# Altium footprint library PcbLib3.PcbLib: 1 footprints
Each footprint in its own frame and in the unit in brackets; x right, y up, seen from the top. Pads: shape width x height; smd on the part's side, far side on the other; paste and mask are expansions set on the pad; w line width, h text height; cw(c..) or ccw(c..) is an arc to the next point about the centre after c.
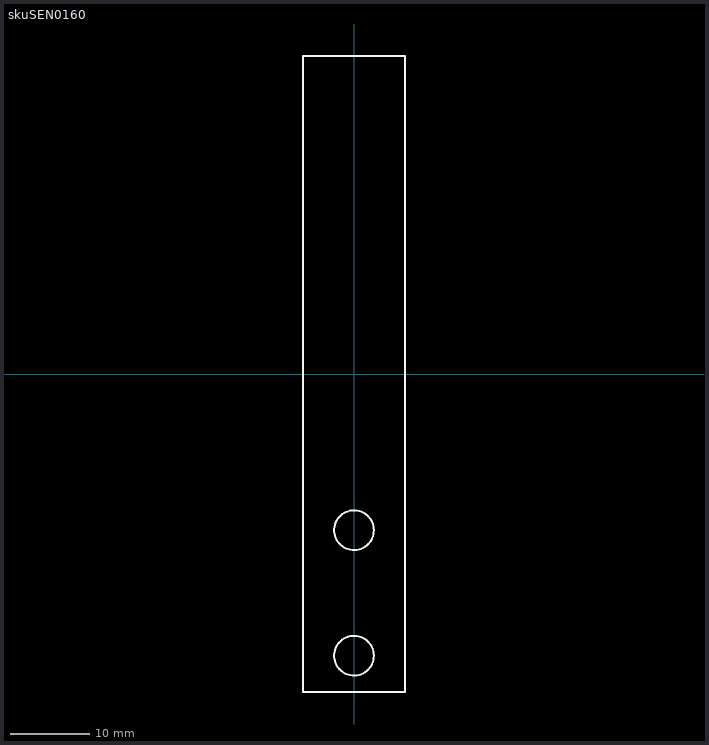
[diagram p0: the footprint, top view; thin cyan lines are the x and y axes]

## skuSEN0160 [mm] "weight sensor skuSEN0160"
Top Overlay:
  circle w0.254: c0,-19.685 r2.5
  circle w0.254: c0,-35.5 r2.5
  lines w0.254: -6.4,-40.1 6.4,-40.1 6.4,40.1 -6.4,40.1 -6.4,-40.1